# Altium schematic symbol library CP2102.SchLib: 1 symbol
Pins are listed as number, name and electrical type; pins without a type are passive.

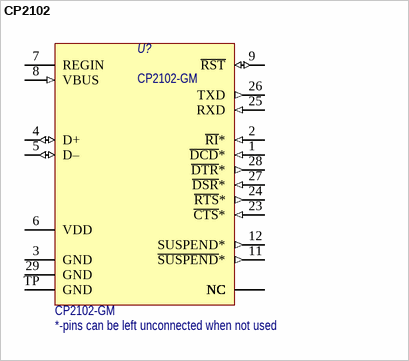
[diagram p0: symbol CP2102]

## CP2102
designator U?, comment CP2102-GM  Note: *-pins can be left unconnected when not used
SINGLE-CHIP USB TO UART BRIDGE; Потребление, Вт: 0.1; Назначение: SINGLE-CHIP USB TO UART BRIDGE; ComponentLink1Description: DataSheet; ComponentLink1URL: https://www.silabs.com/documents/public/data-sheets/CP2102-9.pdf; Наименование: CP2102-GM
footprint CP2102-QFN29 (QFN, 28-Leads, Body 5,00x5,00mm, Pitch 0,50mm, Thermal Pad 3,13x3,13mm, IPC Medium Density)
pins: 1 ~{DCD}* (in) "Data Carrier Detect control input (active low)", 2 ~{RI}* (in) "Ring Indicator control input (active low)", 3 GND (power), 4 D+ (io) "USB D+", 5 D– (io) "USB D–", 6 VDD (power) "3.0–3.6 V Power Supply Voltage Input. / 3.3 V Voltage Regulator Output. See Section 9."", 7 REGIN (power) "5 V Regulator Input. This pin is the input to the on-chip voltage regu / lator."", 8 VBUS (in) "VBUS Sense Input. This pin should be connected to the VBUS sig / nal of a USB network. A 5 V signal on this pin indicates a USB net / work connection."", 9 ~{RST} (io) "Device Reset. Open-drain output of internal POR or VDD monitor. An / external source can initiate a system reset by driving this pin low for / at least 15 µs."", 10 NC (hiz) "These pins should be left unconnected or tied to VDD.", 11 ~{SUSPEND}* (out) ""This pin is driven low when the CP2102 enters the USB suspend / state."", 12 SUSPEND* (out) ""This pin is driven high when the CP2102 enters the USB suspend / state."", 13 NC (hiz) "These pins should be left unconnected or tied to VDD.", 14 NC (hiz) "These pins should be left unconnected or tied to VDD.", 15 NC (hiz) "These pins should be left unconnected or tied to VDD.", 16 NC (hiz) "These pins should be left unconnected or tied to VDD.", 17 NC (hiz) "These pins should be left unconnected or tied to VDD.", 18 NC (hiz) "These pins should be left unconnected or tied to VDD.", 19 NC (hiz) "These pins should be left unconnected or tied to VDD.", 20 NC (hiz) "These pins should be left unconnected or tied to VDD.", 21 NC (hiz) "These pins should be left unconnected or tied to VDD.", 22 NC (hiz) "These pins should be left unconnected or tied to VDD.", 23 ~{CTS}* (in) "Clear To Send control input (active low)", 24 ~{RTS}* (out) "Ready to Send control output (active low)", 25 RXD (in) "Asynchronous data input (UART Receive)", 26 TXD (out) "Asynchronous data output (UART Transmit)", 27 ~{DSR}* (in) "Data Set Ready control input (active low)", 28 ~{DTR}* (out) "Data Terminal Ready control output (active low)", 29 GND (power), TP GND (power)